# Altium footprint library Control_unit.PcbLib: 34 footprints (part 1 of 3)
Each footprint in its own frame and in the unit in brackets; x right, y up, seen from the top. Pads: shape width x height; smd on the part's side, far side on the other; paste and mask are expansions set on the pad; w line width, h text height; cw(c..) or ccw(c..) is an arc to the next point about the centre after c.
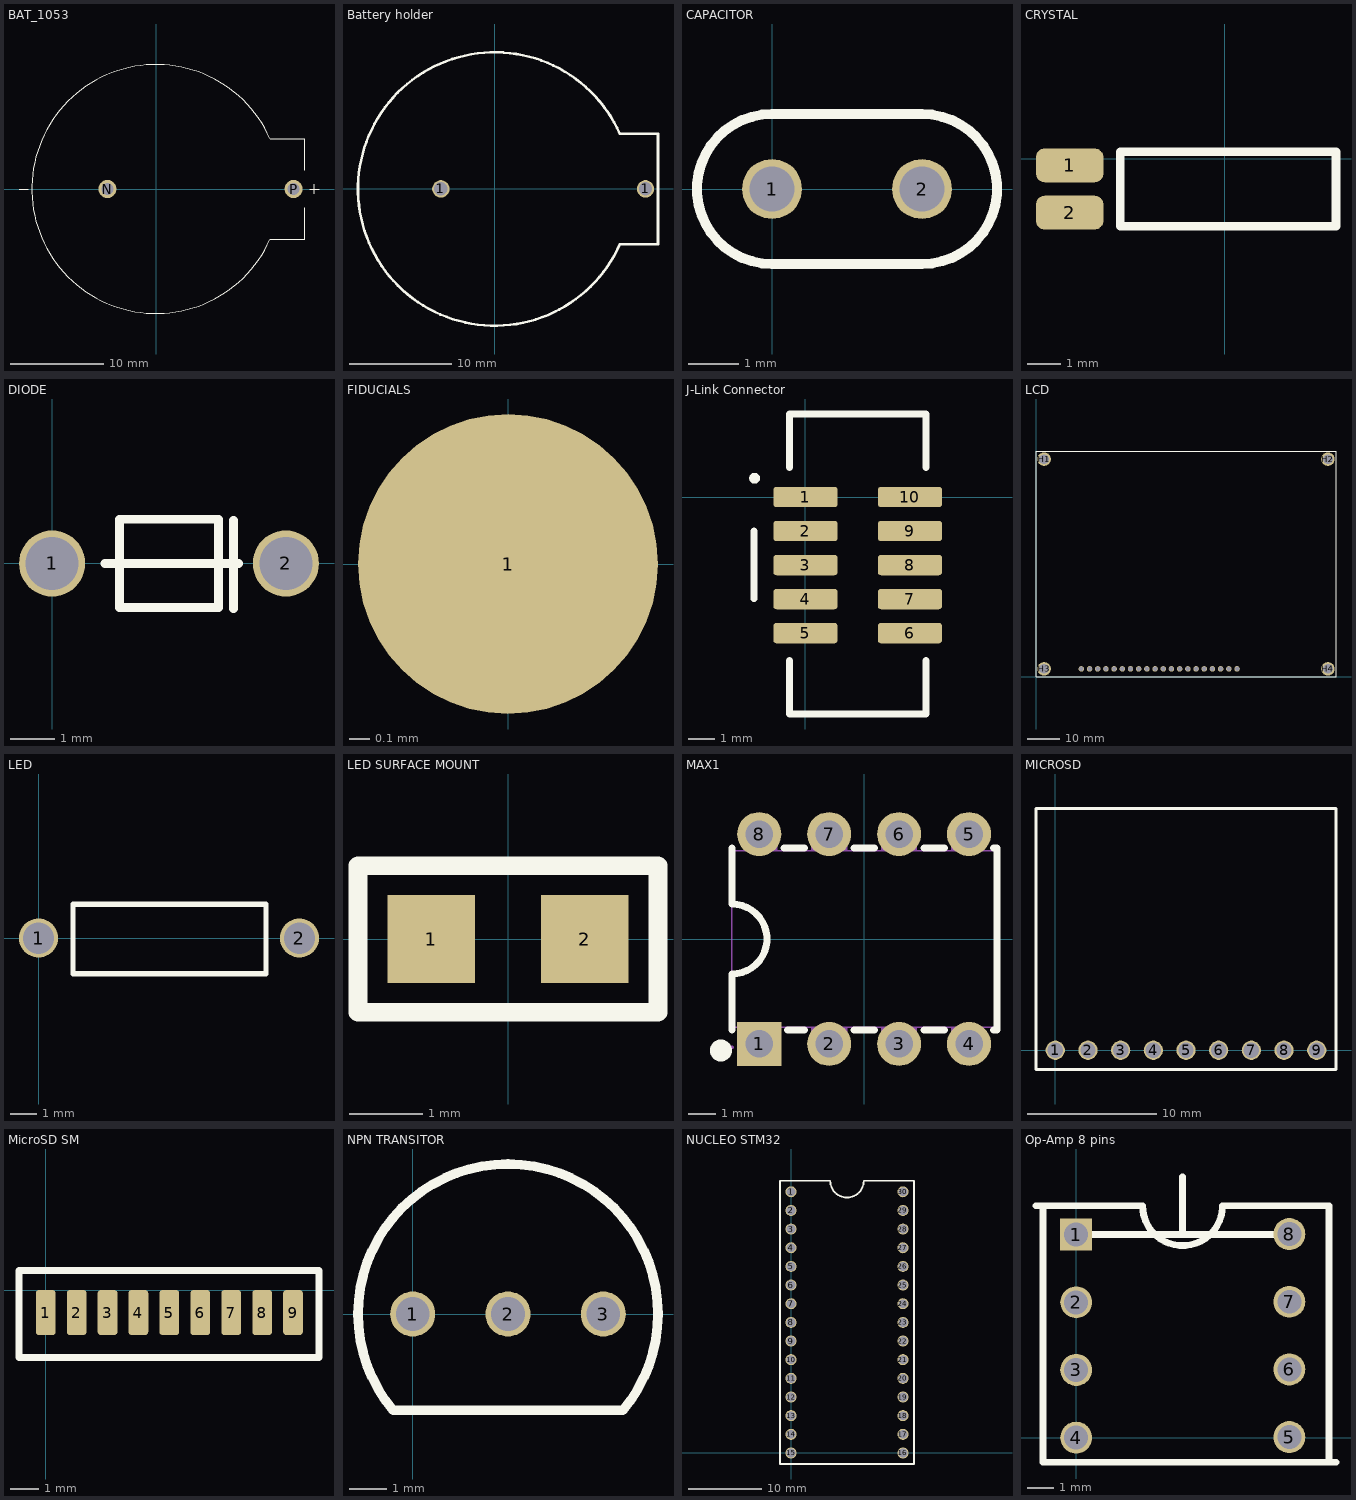
[diagram p0: the footprints below, top view; thin cyan lines are the x and y axes]

## BAT_1053 [mm]
height 9.5
pads (2):
  round 1.95 hole 1.3: N(-5.25,0) P(14.77,0)
Top Overlay:
  lines w0.127: 15.99,-2 15.99,-5.4 ; 15.99,2 15.99,5.4 ; 15.99,-5.4 12.236,-5.4 15.99,-5.4 ; 15.99,5.4 12.236,5.4 15.99,5.4 ; -14.75,0 -13.75,0 -14.75,0 ; 12.219,-5.44 cw(c0,0) 12.219,5.44 ccw(c0,0) 12.219,-5.44 ; 16.5,0 17.5,0 16.5,0 ; 17,-0.5 17,0.5 17,-0.5

## Battery holder [mm]
pads (2):
  round 1.7 hole 1.3: 1(-5.27,0) 1(14.75,0)
Top Overlay:
  lines w0.254: 12.233,5.393 ccw(c0,-0.014) 12.243,-5.4 15.97,-5.4 15.97,0 15.97,5.4 12.233,5.4

## CAPACITOR [mm]
pads (2):
  round 1.2 hole 0.9: 1(0,0) 2(3,0)
Top Overlay:
  lines w0.2: 0,-1.5 cw(c0,0) 0,1.5 3,1.5 cw(c3,0) 3,-1.5 0,-1.5

## CRYSTAL [mm]
pads (2):
  rrect50% 2x1 smd: 1(-4.6,-0.2) 2(-4.6,-1.6)
Top Overlay:
  lines w0.254: -3.1,-2 3.3,-2 3.3,0.2 -3.1,0.2 -3.1,-2

## DIODE [mm]
pads (2):
  round 1.5 hole 1.2: 1(0,0) 2(5.3,0)
Top Overlay:
  lines w0.2: 1.2,0 3.775,0 ; 1.6,0 4.225,0 ; 4.108,-1.025 4.108,0.975 ; 3.775,0 3.775,-1 1.525,-1 1.525,1 3.775,1 3.775,0

## FIDUCIALS [mm]
pads (1):
  round 1.5 smd paste-1 mask+1: 1(0,0)

## J-Link Connector [mm]
pads (10):
  rrect30% 2.4x0.76 smd: 1(0,0) 2(0,-1.27) 3(0,-2.54) 4(0,-3.81) 5(0,-5.08) 6(3.9,-5.08) 7(3.9,-3.81) 8(3.9,-2.54) 9(3.9,-1.27) 10(3.9,0)
Top Overlay:
  circle w0.2: c-1.9,0.7 r0.1
  lines w0.254: -1.92,-3.8 -1.92,-1.27 ; -0.6,-6.1 -0.6,-8.1 4.5,-8.1 4.5,-6.1 ; -0.6,1.1 -0.6,3.1 4.5,3.1 4.5,1.1

## LCD [mm]
pads (24):
  round 1.7 hole 1.4: 1(62.315,2.485) 2(59.775,2.485) 3(57.235,2.485) 4(54.695,2.485) 5(52.155,2.485) 6(49.615,2.485) 7(47.075,2.485) 8(44.535,2.485) 9(41.995,2.485) 10(39.455,2.485) 11(36.915,2.485) 12(34.375,2.485) 13(31.835,2.485) 14(29.295,2.485) 15(26.755,2.485) 16(24.215,2.485) 17(21.675,2.485) 18(19.135,2.485) 19(16.595,2.485) 20(14.055,2.485)
  round 4.2 hole 3: H1(2.5,67.5) H2(90.5,67.5) H3(2.5,2.5) H4(90.5,2.5)
Top Overlay:
  circle w0.254: c2.5,2.5 r1.5
  circle w0.254: c2.5,67.5 r1.5
  circle w0.254: c90.5,2.5 r1.5
  circle w0.254: c90.5,67.5 r1.5
  lines w0.254: 0,2.5 0,0 ; 14.04,0 0,0 ; 14.04,2.5 14.055,2.485 ; 0,0 0,70 93,70 93,0 0,0

## LED [mm]
pads (2):
  round 1.5 hole 1.2: 1(0,0) 2(10,0)
Top Overlay:
  lines w0.2: 1.325,-1.367 8.716,-1.367 8.716,1.3 1.325,1.3 1.325,-1.367

## LED SURFACE MOUNT [mm]
pads (2):
  rect 1.2x1.2 smd: 1(-1.05,0) 2(1.05,0)
Top Overlay:
  lines w0.254: -2.05,-1 2.05,-1 2.05,1 -2.05,1 -2.05,-1

## MAX1 [mil]
pads (8):
  rect 63x63 hole 39.37: 1(-150,-150)
  round 63 hole 39.37: 2(-50,-150) 3(50,-150) 4(150,-150) 5(150,150) 6(50,150) 7(-50,150) 8(-150,150)
Top Overlay:
  circle w15.75: c-204.72,-159.45 r7.87
  lines w10: -188.98,-130 -188.98,-100 -188.98,-50 ccw(c-188.98,0) -188.98,50 -188.98,100 -188.98,130 ; -114.69,130 -85.32,130 ; -109.4,-130 -85.32,-130 ; -14.69,-130 14.68,-130 ; -14.69,130 14.68,130 ; 85.31,-130 114.68,-130 ; 85.31,130 114.68,130 ; 185.31,-130 190,-130 190,130 185.31,130
Mechanical 6:
  circle w15.75: c-165.35,-165.35 r7.87
Mechanical 15:
  region: -124.41,154.53 -124.41,125.79 -159.06,125.79 -159.06,154.92
  region: -159.06,154.92 -138.78,154.92 -138.78,143.5 -159.06,143.5 -159.06,143.74
  region: 159.05,-154.92 138.78,-154.92 138.78,-143.5 159.05,-143.5 159.05,-143.74
  region: 124.41,-154.53 124.41,-125.79 159.05,-125.79 159.05,-154.92
  region: 75.59,-154.92 24.41,-154.92 24.41,-125.79 75.59,-125.79 75.59,-126.02
  region: 34.78,-143.11 34.78,-154.92 65.22,-154.92 65.22,-143.11
  region: -34.78,143.11 -34.78,154.92 -65.22,154.92 -65.22,143.11
  region: -75.59,154.92 -24.41,154.92 -24.41,125.79 -75.59,125.79 -75.59,126.02
  region: 75.59,154.92 24.41,154.92 24.41,125.79 75.59,125.79 75.59,126.02
  region: 34.78,143.11 34.78,154.92 65.22,154.92 65.22,143.11
  region: -34.78,-143.11 -34.78,-154.92 -65.22,-154.92 -65.22,-143.11
  region: -75.59,-154.92 -24.41,-154.92 -24.41,-125.79 -75.59,-125.79 -75.59,-126.02
  region: -124.41,-154.53 -124.41,-125.79 -159.06,-125.79 -159.06,-154.92
  region: -159.06,-154.92 -138.78,-154.92 -138.78,-143.5 -159.06,-143.5 -159.06,-143.74
  region: 159.06,154.92 138.78,154.92 138.78,143.5 159.06,143.5 159.06,143.74
  region: 124.41,154.53 124.41,125.79 159.06,125.79 159.06,154.92
  region: -186.61,-154.92 -186.61,-153.94 -188,-152.56 -189.95,-152.56 -191.34,-153.94 -191.34,-154.92 -191.34,-155.9 -189.95,-157.28 -188,-157.28 -186.61,-155.9 -186.61,-154.92
  lines w2: -188.98,-125.98 188.98,-125.98 188.98,125.98 -188.98,125.98 -188.98,-125.98

## MICROSD [mm]
pads (9):
  round 1.5 hole 1.2: 1(0,0) 2(2.54,0) 3(5.08,0) 4(7.62,0) 5(10.16,0) 6(12.7,0) 7(15.24,0) 8(17.78,0) 9(20.32,0)
Top Overlay:
  lines w0.254: -1.5,-1.5 21.82,-1.5 21.82,18.8 -1.5,18.8 -1.5,-1.5

## MicroSD SM [mm]
pads (9):
  rrect30% 0.7x1.6 smd: 1(0,-0.8) 2(1.1,-0.8) 3(2.2,-0.8) 4(3.3,-0.8) 5(4.4,-0.8) 6(5.5,-0.8) 7(6.6,-0.8) 8(7.7,-0.8) 9(8.8,-0.8)
Top Overlay:
  lines w0.254: -0.95,-2.4 9.725,-2.4 9.725,0.7 -0.95,0.7 -0.95,-2.4

## NPN TRANSITOR [mm]
pads (3):
  round 1.2 hole 0.9: 1(0,0) 2(2.54,0) 3(5.08,0)
Top Overlay:
  lines w0.254: -0.524,-2.571 cw(c2.54,0) 5.604,-2.571 -0.524,-2.571

## NUCLEO STM32 [mm]
pads (30):
  round 1.5 hole 1.2: 1(0,35.56) 2(0,33.02) 3(0,30.48) 4(0,27.94) 5(0,25.4) 6(0,22.86) 7(0,20.32) 8(0,17.78) 9(0,15.24) 10(0,12.7) 11(0,10.16) 12(0,7.62) 13(0,5.08) 14(0,2.54) 15(0,0) 16(15.24,0) 17(15.24,2.54) 18(15.24,5.08) 19(15.24,7.62) 20(15.24,10.16) 21(15.24,12.7) 22(15.24,15.24) 23(15.24,17.78) 24(15.24,20.32) 25(15.24,22.86) 26(15.24,25.4) 27(15.24,27.94) 28(15.24,30.48) 29(15.24,33.02) 30(15.24,35.56)
Top Overlay:
  lines w0.254: -1.5,-1.5 16.74,-1.5 16.74,37.06 9.9,37.06 cw(c7.62,37.06) 5.34,37.06 -1.5,37.06 -1.5,-1.5

## Op-Amp 8 pins [mm]
pads (8):
  rect 1.2x1.2 hole 0.9: 1(0,7.62)
  round 1.2 hole 0.9: 2(0,5.08) 3(0,2.54) 4(0,0) 5(8,0.02) 6(8,2.56) 7(8,5.1) 8(8,7.64)
Top Overlay:
  lines w0.254: -1.51,8.705 2.49,8.705 ccw(c3.99,8.705) 5.49,8.705 9.49,8.705 9.49,-0.895 ; -1.25,8.675 -1.25,-0.925 9.75,-0.925 ; 0,7.62 7.98,7.62 ; 3.99,7.62 3.99,9.79